# Altium schematic symbol library ADA4807-4ARUZ-R7.SchLib: 2 symbols
Pins are listed as number, name and electrical type; pins without a type are passive.

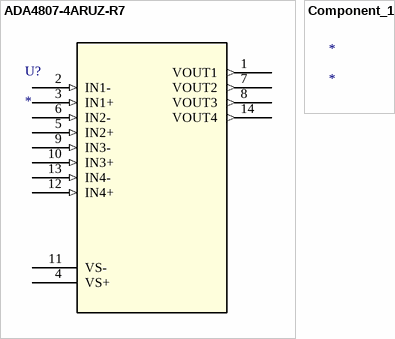
[diagram p0: symbols ADA4807-4ARUZ-R7 to Component_1]

## ADA4807-4ARUZ-R7
designator U?
No Description Available; Mfr_Name: Analog Devices Inc; Type: Linear; RefDes: RefDes
footprint RU-14_ADI
pins: 1 VOUT1 (out), 2 IN1- (in), 3 IN1+ (in), 4 VS+ (power), 5 IN2+ (in), 6 IN2- (in), 7 VOUT2 (out), 8 VOUT3 (out), 9 IN3- (in), 10 IN3+ (in), 11 VS- (power), 12 IN4+ (in), 13 IN4- (in), 14 VOUT4 (out)

## Component_1
designator *